# EAGLE library part MC100LVEL29DWG (library ON_Semiconductor_By_element14_Batch_1)
D Flip-Flop
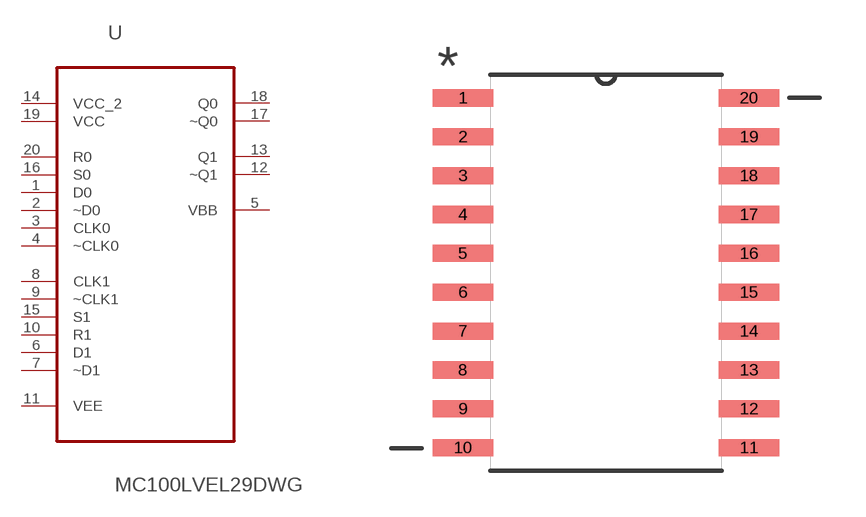
[diagram p145: symbol with the pads of SOIC127P1030X265-20N; footprint SOIC127P1030X265-20N]

Designator prefix U

## MC100LVEL29DWG (MPN: MC100LVEL29DWG; OC_FARNELL: -; OC_NEWARK: 98H0645; PACKAGE: SOIC-20; SUPPLIER: On Semiconductor)  [SOIC127P1030X265-20N]
1  D0  in
2  ~D0  in
3  CLK0  in
4  ~CLK0  in
5  VBB  out
6  D1  in
7  ~D1  in
8  CLK1  in
9  ~CLK1  in
10  R1  in
11  VEE  pwr
12  ~Q1  out
13  Q1  out
14  VCC_2  pwr
15  S1  in
16  S0  in
17  ~Q0  out
18  Q0  out
19  VCC  pwr
20  R0  in

## Footprint SOIC127P1030X265-20N (pad centres in mm)
smd 1.981 x 0.559: 1 -4.674,5.715; 2 -4.674,4.445; 3 -4.674,3.175; 4 -4.674,1.905; 5 -4.674,0.635; 6 -4.674,-0.635; 7 -4.674,-1.905; 8 -4.674,-3.175; 9 -4.674,-4.445; 10 -4.674,-5.715; 11 4.674,-5.715; 12 4.674,-4.445; 13 4.674,-3.175; 14 4.674,-1.905; 15 4.674,-0.635; 16 4.674,0.635; 17 4.674,1.905; 18 4.674,3.175; 19 4.674,4.445; 20 4.674,5.715